# Altium footprint library PAL.PcbLib: 271 footprints (part 11 of 17)
Each footprint in its own frame and in the unit in brackets; x right, y up, seen from the top. Pads: shape width x height; smd on the part's side, far side on the other; paste and mask are expansions set on the pad; w line width, h text height; cw(c..) or ccw(c..) is an arc to the next point about the centre after c.
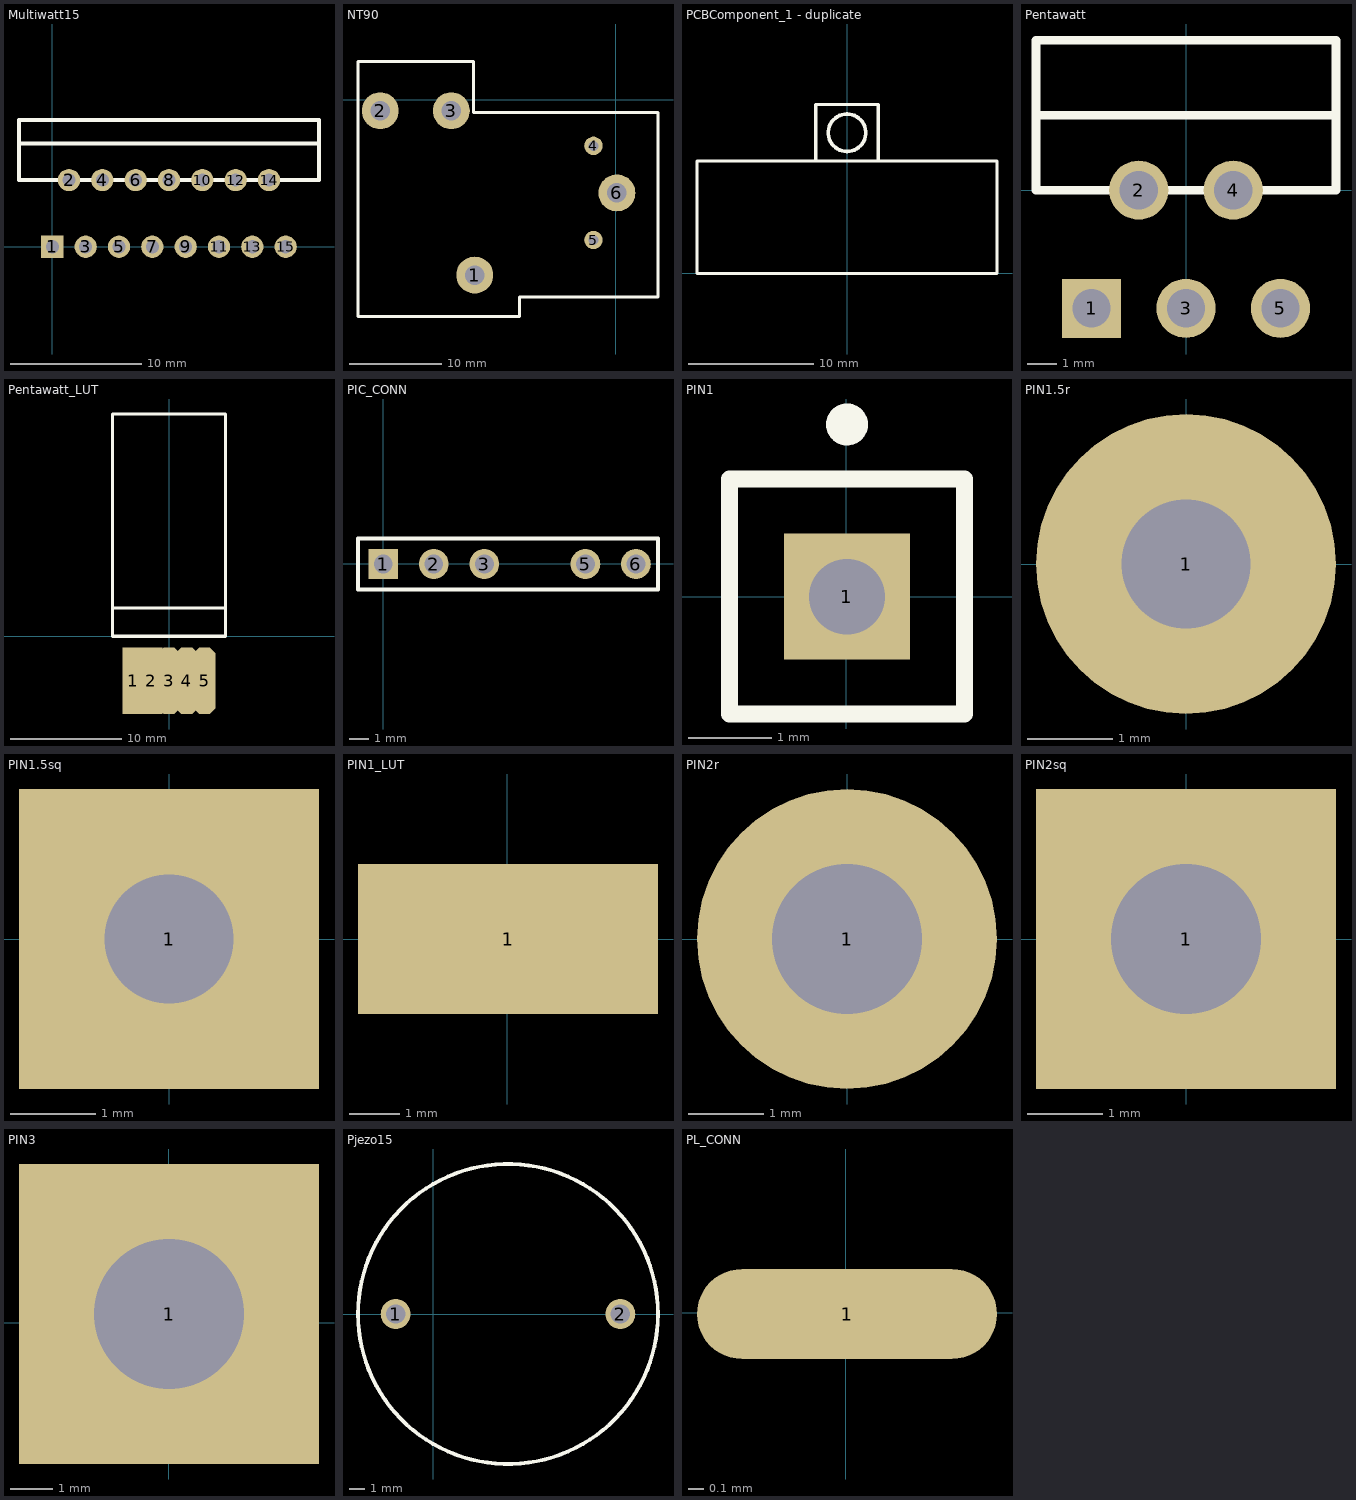
[diagram p10: the footprints below, top view; thin cyan lines are the x and y axes]

## Multiwatt15 [mm]
pads (15):
  rect 1.7x1.7 on Top hole 1: 1(0,0)
  round 1.7 on Top hole 1: 2(1.27,5.08) 3(2.54,0) 4(3.81,5.08) 5(5.08,0) 6(6.35,5.08) 7(7.62,0) 8(8.89,5.08) 9(10.16,0) 10(11.43,5.08) 11(12.7,0) 12(13.97,5.08) 13(15.24,0) 14(16.51,5.08) 15(17.78,0)
Top Overlay:
  lines w0.3: -2.54,7.874 20.32,7.874 ; -2.54,5.08 20.32,5.08 20.32,9.652 -2.54,9.652 -2.54,5.08

## NT90 [mm]
pads (6):
  round 4 on Top hole 2.1: 1(-15.3,-19) 2(-25.54,-1.2) 3(-17.84,-1.2) 6(0.1,-10.1)
  round 2 on Top hole 1.1: 4(-2.44,-5) 5(-2.44,-15.2)
Top Overlay:
  lines w0.3: -27.95,-23.475 -27.95,4.125 -15.45,4.125 -15.45,-1.375 4.55,-1.375 4.55,-21.375 -10.45,-21.375 -10.45,-23.475 -27.95,-23.475

## PCBComponent_1 [mm]

## PCBComponent_1 - duplicate [mm]
Top Overlay:
  lines w0.254: -2.5,9 -2.5,13.5 0,13.5 2.5,13.5 2.5,9 ; -12,0 0,0 12,0 12,9 0,9 -12,9 -12,0
  lines w0.3: 0,9.75 cw(c0,11.25) 0,12.75 cw(c0,11.25) 0,9.75

## Pentawatt [mm]
pads (5):
  rect 2x2 on Top hole 1.3: 1(-3.2,-4)
  round 2 on Top hole 1.3: 2(-1.6,0) 3(0,-4) 4(1.6,0) 5(3.2,-4)
Top Overlay:
  lines w0.3: -5.08,2.54 5.08,2.54 ; -5.08,0 5.08,0 5.08,5.08 -5.08,5.08 -5.08,0

## Pentawatt_LUT [mm]
pads (5):
  rect 2x6 smd: 1(-3.2,-4) 2(-1.6,-4)
  oct 2x6 smd: 3(0,-4) 4(1.6,-4) 5(3.2,-4)
Top Overlay:
  lines w0.3: -5.08,2.54 5.08,2.54 ; -5.08,0 5.08,0 5.08,20 -5.08,20 -5.08,0

## PIC_CONN [mm]
pads (5):
  rect 1.5x1.5 on Top hole 0.95: 1(-0.009,-0.01)
  round 1.5 on Top hole 0.95: 2(2.531,-0.01) 3(5.071,-0.01) 5(10.151,-0.01) 6(12.691,-0.01)
Top Overlay:
  lines w0.2: -1.279,-1.28 13.801,-1.28 13.801,1.26 -1.279,1.26 -1.279,-1.28

## PIN1 [mm]
pads (1):
  rect 1.5x1.5 on Top hole 0.9: 1(0.012,0.005)
Top Overlay:
  circle w0.25: c0.012,2.055 r0.125
  lines w0.2: -1.388,-1.395 -1.388,1.405 1.412,1.405 1.412,-1.395 -1.388,-1.395

## PIN1.5r [mm]
pads (1):
  round 3.5 on Top hole 1.5: 1(0,0)

## PIN1.5sq [mm]
pads (1):
  rect 3.5x3.5 on Top hole 1.5: 1(0,0)

## PIN1_LUT [mm]
pads (1):
  rect 6x3 smd: 1(0.012,0.005)

## PIN2r [mm]
pads (1):
  round 4 on Top hole 2: 1(0,0)

## PIN2sq [mm]
pads (1):
  rect 4x4 on Top hole 2: 1(0,0)

## PIN3 [mm]
pads (1):
  rect 7x7 on Top hole 3.5: 1(0.003,0.209)
Top Overlay:
  circle w0.25: c0.003,2.063 r0.125
  lines w0.2: -1.397,-1.387 1.403,-1.387 1.403,1.413 -1.397,1.413 -1.397,-1.387

## Pjezo15 [mm]
pads (2):
  round 2 on Top hole 1.3: 1(-2.503,0.012) 2(12.497,0.012)
Top Overlay:
  circle w0.254: c4.997,0.012 r10.012

## PL_CONN [mm]
pads (1):
  oval 2x0.6 smd: 1(0.008,-0.009)